# Altium schematic symbol library MAXIM11043.SchLib: 1 symbol
Pins are listed as number, name and electrical type; pins without a type are passive.

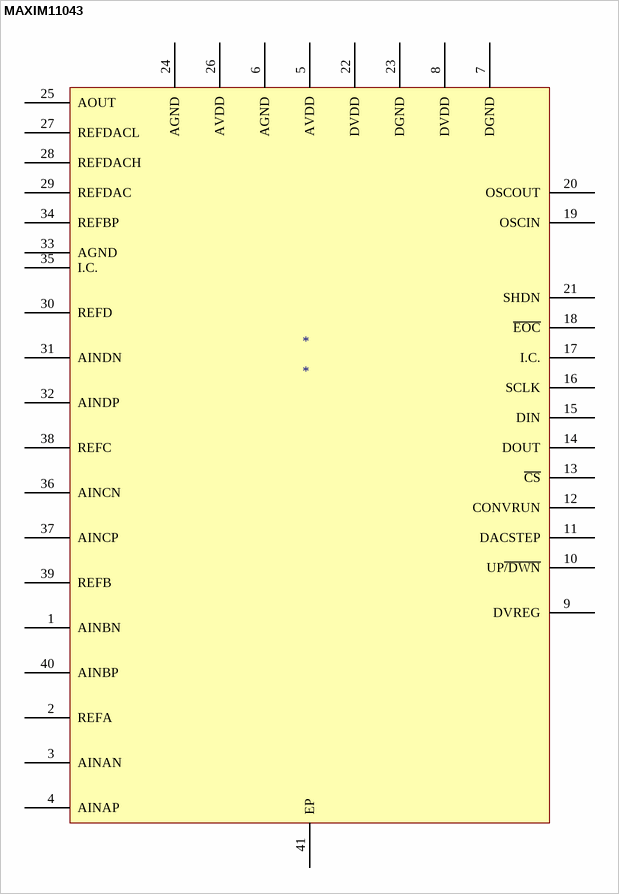
[diagram p0: symbol MAXIM11043]

## MAXIM11043
designator *
footprint 21-0141I_T406600
pins: 1 AINBN, 2 REFA, 3 AINAN, 4 AINAP, 5 AVDD, 6 AGND, 7 DGND, 8 DVDD, 9 DVREG, 10 UP~{/DWN}, 11 DACSTEP, 12 CONVRUN, 13 ~{CS}, 14 DOUT, 15 DIN, 16 SCLK, 17 I.C., 18 ~{EOC}, 19 OSCIN, 20 OSCOUT, 21 SHDN, 22 DVDD, 23 DGND, 24 AGND, 25 AOUT, 26 AVDD, 27 REFDACL, 28 REFDACH, 29 REFDAC, 30 REFD, 31 AINDN, 32 AINDP, 33 AGND, 34 REFBP, 35 I.C., 36 AINCN, 37 AINCP, 38 REFC, 39 REFB, 40 AINBP, 41 EP